# Altium schematic symbol library prop2009.SCHLIB: 22 symbols
Pins are listed as number, name and electrical type; pins without a type are passive.

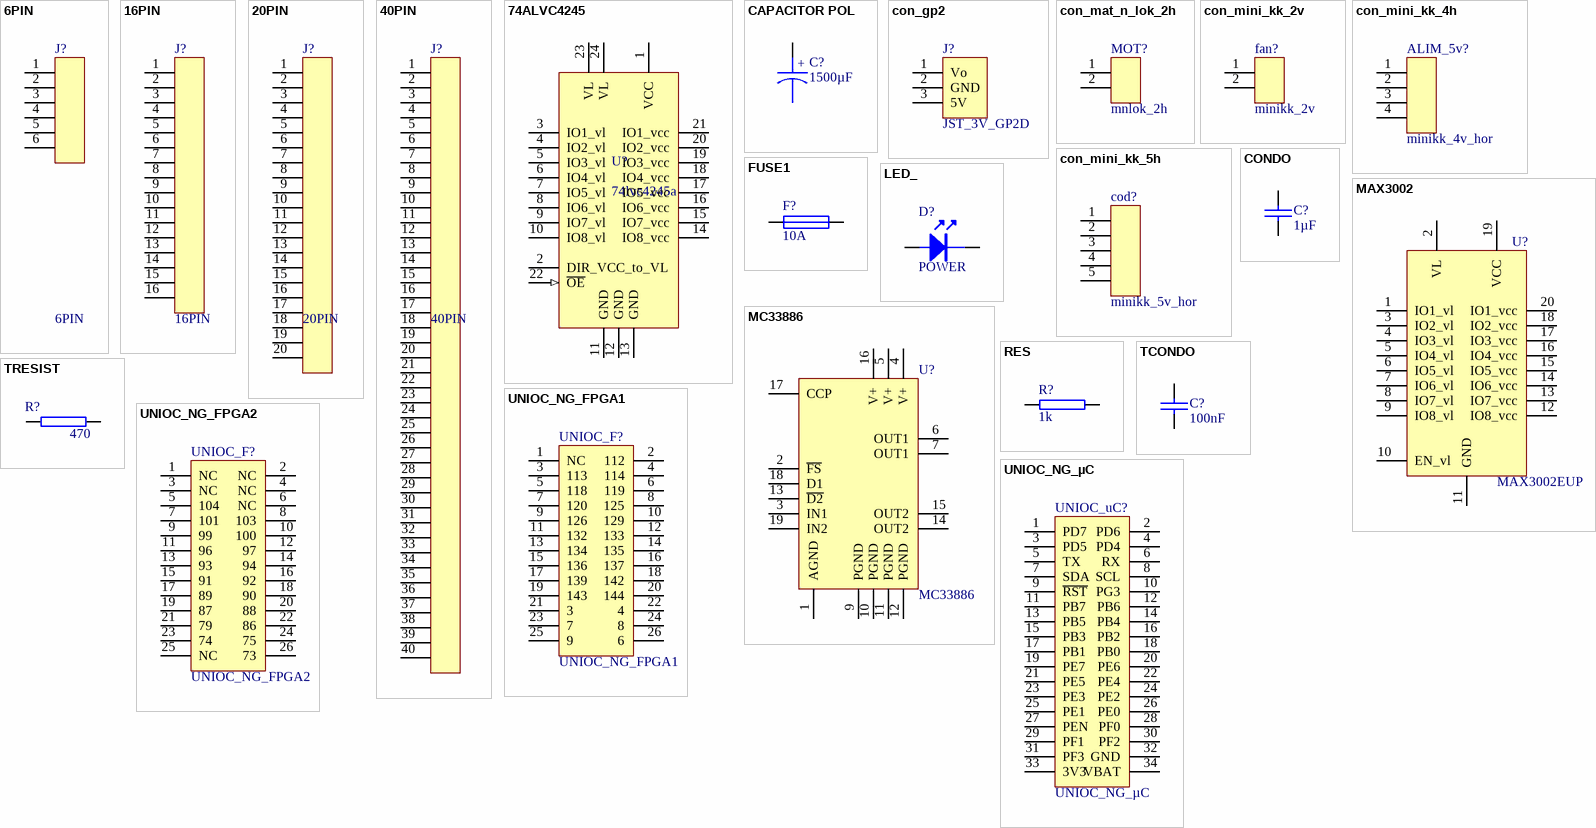
[diagram p0: symbols 6PIN to UNIOC_NG_µC]

## 6PIN
designator J?
footprint con_mat_n_lok_2*3H
pins: 1, 2, 3, 4, 5, 6

## 16PIN
designator J?
footprint IDC16
footprint HE10-16V
pins: 1, 2, 3, 4, 5, 6, 7, 8, 9, 10, 11, 12, 13, 14, 15, 16

## 20PIN
designator J?
footprint HE10-20V
pins: 1, 2, 3, 4, 5, 6, 7, 8, 9, 10, 11, 12, 13, 14, 15, 16, 17, 18, 19, 20

## 40PIN
designator J?
footprint HE10-40V
pins: 1, 2, 3, 4, 5, 6, 7, 8, 9, 10, 11, 12, 13, 14, 15, 16, 17, 18, 19, 20, 21, 22, 23, 24, 25, 26, 27, 28, 29, 30, 31, 32, 33, 34, 35, 36, 37, 38, 39, 40

## 74ALVC4245
designator U?, comment 74lvc4245a
octal voltage transceiver
footprint SSOP24
pins: 1 VCC, 2 DIR_VCC_to_VL, 3 IO1_vl, 4 IO2_vl, 5 IO3_vl, 6 IO4_vl, 7 IO5_vl, 8 IO6_vl, 9 IO7_vl, 10 IO8_vl, 11 GND, 12 GND, 13 GND, 14 IO8_vcc, 15 IO7_vcc, 16 IO6_vcc, 17 IO5_vcc, 18 IO4_vcc, 19 IO3_vcc, 20 IO2_vcc, 21 IO1_vcc, 22 ~{OE} (in), 23 VL, 24 VL

## CAPACITOR POL
designator C?, comment 1500µF
footprint CAPA_AXIAL_10_21
pins: 1, 2
text: +

## con_gp2
designator J?, comment JST_3V_GP2D
ref FN : 949-2429 connecteur JST utilisé dans les GP2D*
footprint CON_GP2 (JST 3V utilisé avec les capteurs GP2D*)
footprint CON_GP2_V
pins: 1 Vo, 2 GND, 3 5V

## con_mat_n_lok_2h
designator MOT?, comment mnlok_2h
connecteur mat'n-lok 2 voies horizontal
footprint con_mat_n_lok_2h (connecteur micro mat n lok 2voies horizontal)
pins: 1, 2

## con_mini_kk_2v
designator fan?, comment minikk_2v
connecteur mini kk 2 voies vertical
footprint con_mini_kk_2v (Footprint not found)
pins: 1, 2

## con_mini_kk_4h
designator ALIM_5v?, comment minikk_4v_hor
connecteur mini kk 4voies horizontal
footprint con_mini_kk_4h (connecteur mini kk 4voies horizontal)
pins: 1, 2, 3, 4

## con_mini_kk_5h
designator cod?, comment minikk_5v_hor
connecteur mini kk 5 voies horizontal
footprint con_mini_kk_5h (connecteur mini kk 5v horizontal)
pins: 1, 2, 3, 4, 5

## CONDO
designator C?, comment 1µF
footprint RAD0.2
footprint TCONDO
pins: 1, 2

## FUSE1
designator F?, comment 10A
footprint PORTE_FUSIBLE
pins: 1, 2

## LED_
designator D?, comment POWER
footprint RAD0.1
footprint LED
footprint LED_CMS
pins: 1, 2

## MAX3002
designator U?, comment MAX3002EUP
bidir 8channels level translator
footprint TSSOP20
pins: 1 IO1_vl, 2 VL, 3 IO2_vl, 4 IO3_vl, 5 IO4_vl, 6 IO5_vl, 7 IO6_vl, 8 IO7_vl, 9 IO8_vl, 10 EN_vl, 11 GND, 12 IO8_vcc, 13 IO7_vcc, 14 IO6_vcc, 15 IO5_vcc, 16 IO4_vcc, 17 IO3_vcc, 18 IO2_vcc, 19 VCC, 20 IO1_vcc

## MC33886
designator U?
pont H 5A
footprint HSOP20
pins: 1 AGND, 2 ~{FS}, 3 IN1, 4 V+, 5 V+, 6 OUT1, 7 OUT1, 9 PGND, 10 PGND, 11 PGND, 12 PGND, 13 ~{D2}, 14 OUT2, 15 OUT2, 16 V+, 17 CCP, 18 D1, 19 IN2

## RES
designator R?, comment 1k
footprint AXIAL0.5
footprint 0805
pins: 1, 2

## TCONDO
designator C?, comment 100nF
footprint TCONDO
pins: 1, 2

## TRESIST
designator R?, comment 470
footprint TRES
footprint 0805
pins: 1, 2

## UNIOC_NG_FPGA1
designator UNIOC_F?
footprint TCON26
pins: 1 NC, 2 112, 3 113, 4 114, 5 118, 6 119, 7 120, 8 125, 9 126, 10 129, 11 132, 12 133, 13 134, 14 135, 15 136, 16 137, 17 139, 18 142, 19 143, 20 144, 21 3, 22 4, 23 7, 24 8, 25 9, 26 6

## UNIOC_NG_FPGA2
designator UNIOC_F?
footprint TCON26
pins: 1 NC, 2 NC, 3 NC, 4 NC, 5 104, 6 NC, 7 101, 8 103, 9 99, 10 100, 11 96, 12 97, 13 93, 14 94, 15 91, 16 92, 17 89, 18 90, 19 87, 20 88, 21 79, 22 86, 23 74, 24 75, 25 NC, 26 73

## UNIOC_NG_µC
designator UNIOC_uC?
footprint TCON32
footprint TCON34
pins: 1 PD7, 2 PD6, 3 PD5, 4 PD4, 5 TX, 6 RX, 7 SDA, 8 SCL, 9 ~{RST}, 10 PG3, 11 PB7, 12 PB6, 13 PB5, 14 PB4, 15 PB3, 16 PB2, 17 PB1, 18 PB0, 19 PE7, 20 PE6, 21 PE5, 22 PE4, 23 PE3, 24 PE2, 25 PE1, 26 PE0, 27 PEN, 28 PF0, 29 PF1, 30 PF2, 31 PF3, 32 GND, 33 3V3, 34 VBAT